# EAGLE library part FLAT-FLEX-CONNECTOR-RA-14POS (library FlashPCB_Connectors)
FLAT-FLEX-CONNECTOR-RA-14POS - Flat Flex Connector 14 position Right Angle Technical Specifications: Number of Positions: 14 Contact: Top or Bottom Mount: Right Angle
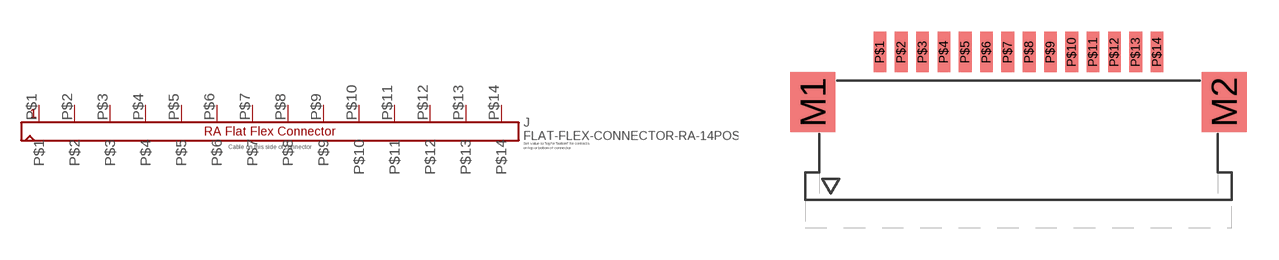
[diagram p111: symbol with the pads of FLAT-FLEX-CONNECTOR-MOLEX-522XX-RA-14POS; footprint FLAT-FLEX-CONNECTOR-MOLEX-522XX-RA-14POS]

Designator prefix J

## FLAT-FLEX-CONNECTOR-RA-14POS1MM-PITCH  [FLAT-FLEX-CONNECTOR-MOLEX-522XX-RA-14POS]
P$1  P$1
P$2  P$2
P$3  P$3
P$4  P$4
P$5  P$5
P$6  P$6
P$7  P$7
P$8  P$8
P$9  P$9
P$10  P$10
P$11  P$11
P$12  P$12
P$13  P$13
P$14  P$14

## Footprint FLAT-FLEX-CONNECTOR-MOLEX-522XX-RA-14POS (pad centres in mm)
smd 2.1 x 2.8: M1 -9.65,-1.4; M2 9.65,-1.4
smd 0.6 x 1.9: P$1 -6.5,0.95; P$2 -5.5,0.95; P$3 -4.5,0.95; P$4 -3.5,0.95; P$5 -2.5,0.95; P$6 -1.5,0.95; P$7 -0.5,0.95; P$8 0.5,0.95; P$9 1.5,0.95; P$10 2.5,0.95; P$11 3.5,0.95; P$12 4.5,0.95; P$13 5.5,0.95; P$14 6.5,0.95